# EAGLE library part MICROBUILDER_ACCEL_MAG_FXOS8700CQ (library Adafruit FXOS8700 FXAS21002 9 DoF Breakout)
FX0S8700CQ - 3-Axis Accelerometer and Magnetometer Accel Range: +/-2/4/8 g Accel Data Rate: 1.6-800Hz (400Hz in hybrid mode) Accel Resolution: 14-bits Mag Range: 1200uT Mag Data Rate: 1.6-800Hz (400Hz in hybrid mode) Mag Resolution: 16-bits
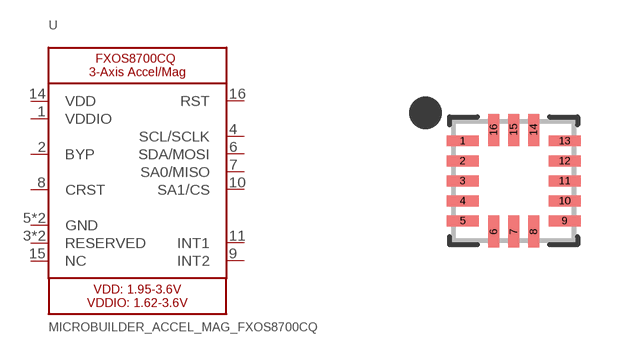
[diagram p0: symbol with the pads of MICROBUILDER_QFN16_3MM_FREESCALE_5X3; footprint MICROBUILDER_QFN16_3MM_FREESCALE_5X3]

Designator prefix U

## MICROBUILDER_ACCEL_MAG_FXOS8700CQ  [MICROBUILDER_QFN16_3MM_FREESCALE_5X3]
1  VDDIO
2  BYP
3  RESERVED
4  SCL/SCLK
5  GND
6  SDA/MOSI
7  SA0/MISO
8  CRST
9  INT2
10  SA1/CS
11  INT1
12  GND
13  RESERVED
14  VDD
15  NC
16  RST

## Footprint MICROBUILDER_QFN16_3MM_FREESCALE_5X3 (pad centres in mm)
smd 0.8 x 0.275: 1 -1.275,1; 2 -1.275,0.5; 3 -1.275,0; 4 -1.275,-0.5; 5 -1.275,-1; 9 1.275,-1; 10 1.275,-0.5; 11 1.275,0; 12 1.275,0.5; 13 1.275,1
smd 0.275 x 0.8: 6 -0.5,-1.275; 7 0,-1.275; 8 0.5,-1.275; 14 0.5,1.275; 15 0,1.275; 16 -0.5,1.275